# Altium schematic symbol library TPS7A0312PDBVR.SchLib: 2 symbols
Pins are listed as number, name and electrical type; pins without a type are passive.

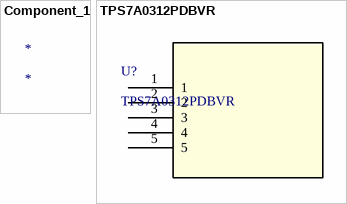
[diagram p0: symbols Component_1 to TPS7A0312PDBVR]

## Component_1
designator *

## TPS7A0312PDBVR
designator U?
No Description Available; Mfr_Name: Texas Instruments; Copyright: Copyright (C) 2022 Ultra Librarian. All rights reserved.; Manufacturer_Part_Number: TPS7A0312PDBVR; RefDes: RefDes; Type: DEV
footprint SOT23-5_DBV_TEX
pins: 1, 2, 3, 4, 5